# EAGLE library part XCL206 (library regulators)
Non-Isolated PoL Module DC DC Converter 1 Output 1.8V 600mA 2V - 6V Input
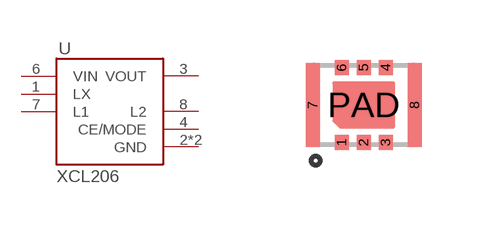
[diagram p2: symbol with the pads of XCL20X; footprint XCL20X]

Designator prefix U

## XCL206B (DIGIKEY: 893-1406-2-ND; MPN: XCL206B183CR-G)  [XCL20X]
1  LX
2  GND
3  VOUT
4  CE/MODE
5  GND
6  VIN
7  L1
8  L2

## Footprint XCL20X (pad centres in mm)
smd 0.35 x 0.375: 1 -0.55,-0.938; 2 0,-0.938; 3 0.55,-0.938; 4 0.55,0.938; 5 0,0.938; 6 -0.55,0.938
smd 0.35 x 2.1: 7 -1.275,0; 8 1.275,0
smd 1.5 x 0.9: PAD 0,0